# Altium footprint library SOIC16P127_990X599X175L83X41N.PcbLib: 1 footprints
Each footprint in its own frame and in the unit in brackets; x right, y up, seen from the top. Pads: shape width x height; smd on the part's side, far side on the other; paste and mask are expansions set on the pad; w line width, h text height; cw(c..) or ccw(c..) is an arc to the next point about the centre after c.
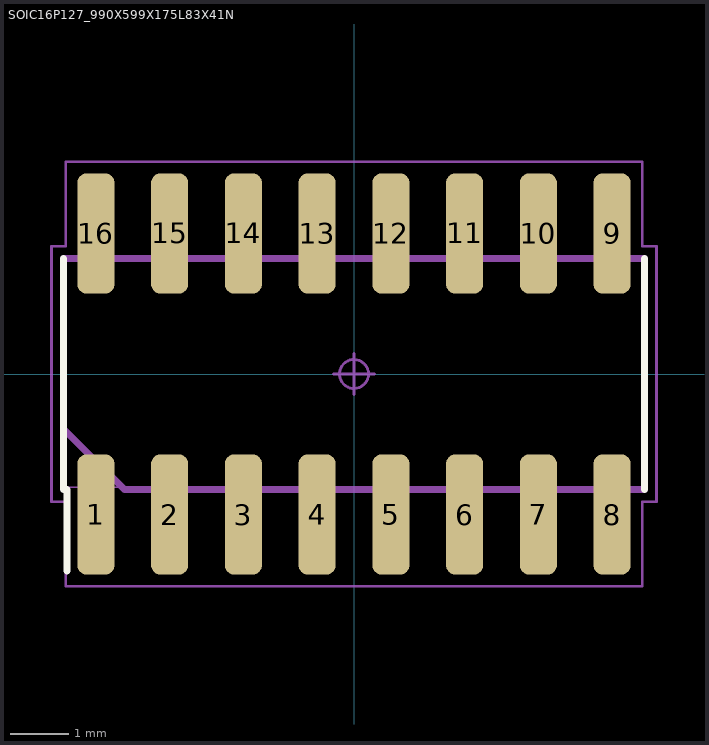
[diagram p0: the footprint, top view; thin cyan lines are the x and y axes]

## SOIC16P127_990X599X175L83X41N [mm] "Small Outline IC (SOIC), 1.27 mm pitch; 16 pin, 9.906 mm L X 3.899 mm W X 1.752 mm H body"
height 1.752
pads (16):
  rrect50% 0.64x2.07 smd: 1(-4.445,-2.42) 2(-3.175,-2.42) 3(-1.905,-2.42) 4(-0.635,-2.42) 5(0.635,-2.42) 6(1.905,-2.42) 7(3.175,-2.42) 8(4.445,-2.42) 9(4.445,2.42) 10(3.175,2.42) 11(1.905,2.42) 12(0.635,2.42) 13(-0.635,2.42) 14(-1.905,2.42) 15(-3.175,2.42) 16(-4.445,2.42)
Top Overlay:
  lines w0.12: -5,-1.99 -5,1.99 ; -4.945,-3.395 -4.945,-1.99 ; 5,-1.99 5,1.99
Mechanical 3:
  lines w0.12: -5,-0.944 -3.954,-1.99 5,-1.99 5,1.99 -5,1.99 -5,-0.944
Mechanical 5:
  lines w0.025: -4.953,-1.95 4.953,-1.95 4.953,1.95 -4.953,1.95 -4.953,-1.95 ; -4.654,-2.997 -4.654,-2.159 -4.236,-2.159 -4.236,-2.997 -4.654,-2.997 ; -4.654,2.159 -4.654,2.997 -4.236,2.997 -4.236,2.159 -4.654,2.159 ; -3.384,-2.997 -3.384,-2.159 -2.966,-2.159 -2.966,-2.997 -3.384,-2.997 ; -3.384,2.159 -3.384,2.997 -2.966,2.997 -2.966,2.159 -3.384,2.159 ; -2.114,-2.997 -2.114,-2.159 -1.696,-2.159 -1.696,-2.997 -2.114,-2.997 ; -2.114,2.159 -2.114,2.997 -1.696,2.997 -1.696,2.159 -2.114,2.159 ; -0.844,-2.997 -0.844,-2.159 -0.426,-2.159 -0.426,-2.997 -0.844,-2.997 ; -0.844,2.159 -0.844,2.997 -0.426,2.997 -0.426,2.159 -0.844,2.159 ; 0.426,-2.997 0.426,-2.159 0.844,-2.159 0.844,-2.997 0.426,-2.997 ; 0.426,2.159 0.426,2.997 0.844,2.997 0.844,2.159 0.426,2.159 ; 1.696,-2.997 1.696,-2.159 2.114,-2.159 2.114,-2.997 1.696,-2.997 ; 1.696,2.159 1.696,2.997 2.114,2.997 2.114,2.159 1.696,2.159 ; 2.966,-2.997 2.966,-2.159 3.384,-2.159 3.384,-2.997 2.966,-2.997 ; 2.966,2.159 2.966,2.997 3.384,2.997 3.384,2.159 2.966,2.159 ; 4.236,-2.997 4.236,-2.159 4.654,-2.159 4.654,-2.997 4.236,-2.997 ; 4.236,2.159 4.236,2.997 4.654,2.997 4.654,2.159 4.236,2.159
Mechanical 7:
  circle w0.05: c0,0 r0.25
  lines w0.05: -0.35,0 0.35,0 ; 0,-0.35 0,0.35 ; -5.21,-2.2 -4.965,-2.2 -4.965,-3.655 4.965,-3.655 4.965,-2.2 5.21,-2.2 5.21,2.2 4.965,2.2 4.965,3.655 -4.965,3.655 -4.965,2.2 -5.21,2.2 -5.21,-2.2
Mechanical 9:
  text "'.Designator'" at -5.461,-0.457 h1
3D body: height 0.03, standoff 0, extent -5.207,-3.658 5.207,3.658
3D body "SOIC16P127_990X599X175L83X41.STEP": height 1.75, standoff 0, extent -4.953,-2.997 4.953,2.997
3D body: height 1.04, standoff 0, extent -5.21,-3.655 5.21,3.655